# Altium schematic symbol library heromap.SchLib: 513 symbols (part 4 of 4)
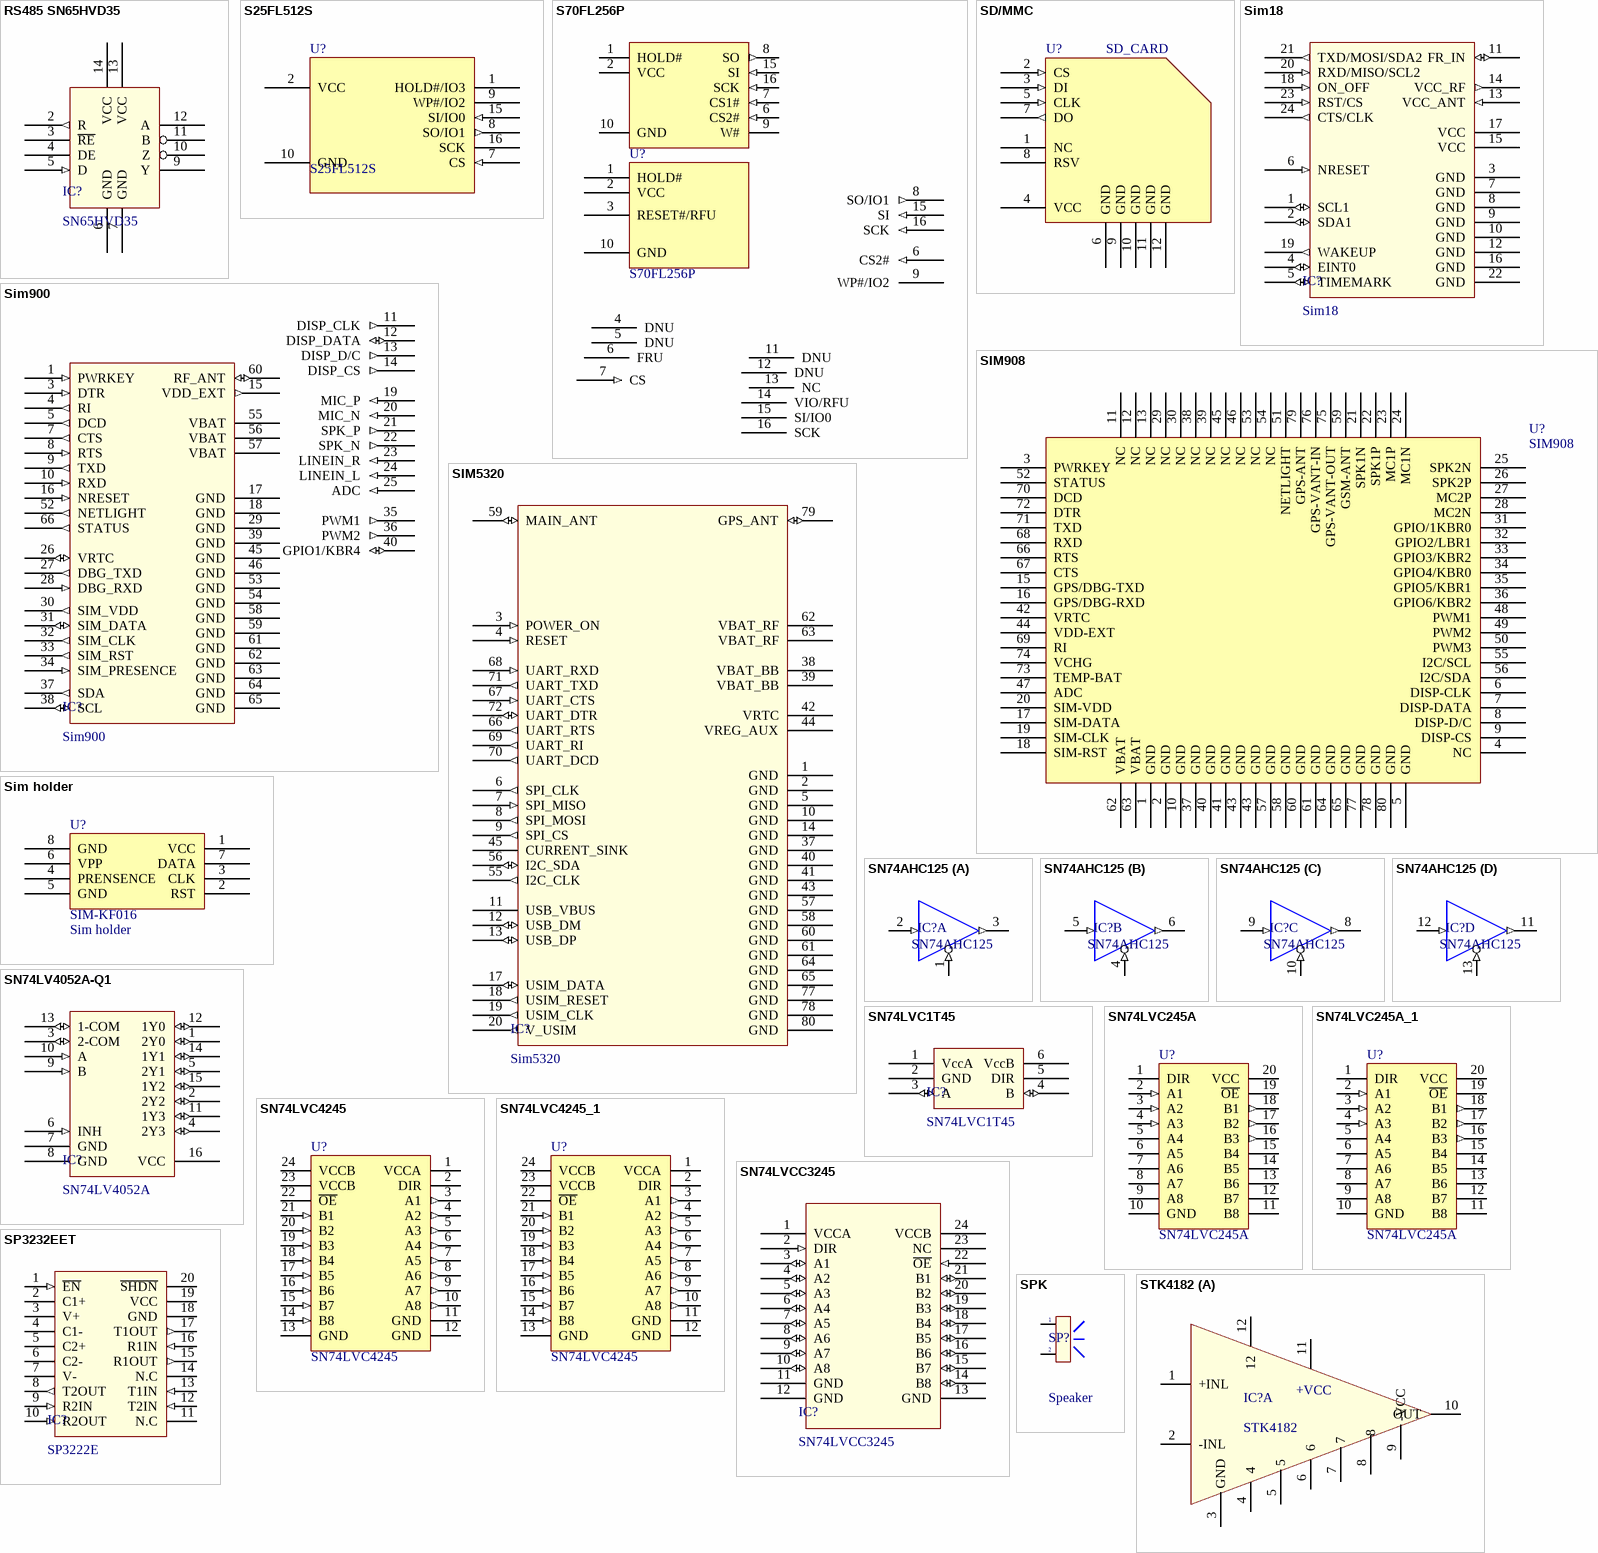
[diagram p22: symbols RS485 SN65HVD35 to STK4182]

## SIM908
designator U?
SIM908 GSM/GPRS + GPS module
footprint Sim 908 (Sim 908 GPRS-GPS)
pins: 1 GND, 2 GND, 3 PWRKEY, 4 NC, 5 GND, 6 DISP-CLK, 7 DISP-DATA, 8 DISP-D/C, 9 DISP-CS, 10 GND, 11 NC, 12 NC, 13 NC, 15 GPS/DBG-TXD, 16 GPS/DBG-RXD, 17 SIM-DATA, 18 SIM-RST, 19 SIM-CLK, 20 SIM-VDD, 21 SPK1N, 22 SPK1P, 23 MC1P, 24 MC1N, 25 SPK2N, 26 SPK2P, 27 MC2P, 28 MC2N, 29 NC, 30 NC, 31 GPIO/1KBR0, 32 GPIO2/LBR1, 33 GPIO3/KBR2, 34 GPIO4/KBR0, 35 GPIO5/KBR1, 36 GPIO6/KBR2, 37 GND, 38 NC, 39 NC, 40 GND, 41 GND, 42 VRTC, 43 GND, 43 GND, 44 VDD-EXT, 45 NC, 46 NC, 47 ADC, 48 PWM1, 49 PWM2, 50 PWM3, 51 NETLIGHT, 52 STATUS, 53 NC, 54 NC, 55 I2C/SCL, 56 I2C/SDA, 57 GND, 58 GND, 59 GSM-ANT, 60 GND, 61 GND, 62 VBAT, 63 VBAT, 64 GND, 65 GND, 66 RTS, 67 CTS, 68 RXD, 69 RI, 70 DCD, 71 TXD, 72 DTR, 73 TEMP-BAT, 74 VCHG, 75 GPS-VANT-OUT, 76 GPS-VANT-IN, 77 GND, 78 GND, 79 GPS-ANT, 80 GND

## SIM5320
designator IC?, comment Sim5320
SIM5320 GSM/GPRS/WCDMA/GPS
pins: 1 GND, 2 GND, 3 POWER_ON (in), 4 RESET (in), 5 GND, 6 SPI_CLK (out), 7 SPI_MISO (in), 8 SPI_MOSI (out), 9 SPI_CS (out), 10 GND, 11 USB_VBUS, 12 USB_DM (io), 13 USB_DP (io), 14 GND, 15 RESERVED hidden, 16 RESERVED hidden, 17 USIM_DATA (io), 18 USIM_RESET (out), 19 USIM_CLK (out), 20 V_USIM (out), 21 SPK_M hidden, 22 SPK_P hidden, 23 MIC1P hidden, 24 MIC1N hidden, 25 EAR1N hidden, 26 EAR1P hidden, 27 KEYSENSE_N1 hidden, 28 KEYSENSE_N0 hidden, 29 KEYPAD_0 hidden, 30 KEYPAD_2 hidden, 31 KEYSENSE_N2 hidden, 32 KEYSENSE_N3 hidden, 33 KEYPAD_1 hidden, 34 KEYPAD_4 hidden, 35 KEYPAD_3 hidden, 36 KEYSENSE_N4 hidden, 37 GND, 38 VBAT_BB, 39 VBAT_BB, 40 GND, 41 GND, 42 VRTC, 43 GND, 44 VREG_AUX, 45 CURRENT_SINK, 46 ADC2 hidden, 47 ADC1 hidden, 48 GPIO44 hidden, 49 GPIO40 hidden, 50 GPIO43 hidden, 51 GPIO1 hidden, 52 GPIO41 hidden, 53 GPIO42 hidden, 54 GPIO4 hidden, 55 I2C_CLK (out), 56 I2C_SDA (io), 57 GND, 58 GND, 59 MAIN_ANT (io), 60 GND, 61 GND, 62 VBAT_RF, 63 VBAT_RF, 64 GND, 65 GND, 66 UART_RTS (out), 67 UART_CTS (in), 68 UART_RXD (in), 69 UART_RI (out), 70 UART_DCD (out), 71 UART_TXD (out), 72 UART_DTR (io), 73 PCM_DOUT hidden, 74 PCM_DIN hidden, 75 PCM_SYNC hidden, 76 PCM_CLK hidden, 77 GND, 78 GND, 79 GPS_ANT (io), 80 GND

## Sim holder
designator U?, comment SIM-KF016  value Sim holder
SIM Card Holder KF-016
footprint SIM_HOLDER
pins: 1 VCC, 2 RST, 3 CLK, 4 PRENSENCE, 5 GND, 6 VPP, 7 DATA, 8 GND

## SN74AHC125
designator IC?
QUADRUPLE BUS BUFFER GATES  WITH 3-STATE OUTPUTS
pins on every part: 7 GND (power) hidden to GND, 14 VCC (power) hidden to VCC
part A pins: 1 1~{OE} (in), 2 1A (in), 3 1Y (out)
part B pins: 4 2~{OE} (in), 5 2A (in), 6 2Y (out)
part C pins: 8 3Y (out), 9 3A (in), 10 3~{OE} (in)
part D pins: 11 4Y (out), 12 4A (in), 13 4~{OE} (in)

## SN74LV4052A-Q1
designator IC?, comment SN74LV4052A
DUAL 4-CHANNEL ANALOG MULTIPLEXERS/DEMULTIPLEXERS
pins: 1 2Y0 (io), 2 2Y2 (io), 3 2-COM (io), 4 2Y3 (io), 5 2Y1 (io), 6 INH (in), 7 GND (power), 8 GND (power), 9 B (in), 10 A (in), 11 1Y3 (io), 12 1Y0 (io), 13 1-COM (io), 14 1Y1 (io), 15 1Y2 (io), 16 VCC (power)

## SN74LVC1T45
designator IC?
SINGLE-BIT DUAL-SUPPLY BUS TRANSCEIVER
footprint SOT23-6 (SOT23, 5-Leads, Body 3.0x3.0mm (max), Pitch 0.95mm, IPC Medium Density)
pins: 1 VccA, 2 GND, 3 A (io), 4 B (io), 5 DIR, 6 VccB

## SN74LVC245A
designator U?
footprint SOIC-20 (SOIC, 16-Leads, Body 10.3x7.5mm (max), Pitch 1.27mm, IPC Medium Density)
pins: 1 DIR, 2 A1 (in), 3 A2 (in), 4 A3 (in), 5 A4, 6 A5, 7 A6, 8 A7, 9 A8, 10 GND, 11 B8, 12 B7, 13 B6, 14 B5, 15 B4, 16 B3 (out), 17 B2 (out), 18 B1 (out), 19 ~{OE}, 20 VCC

## SN74LVC245A_1
designator U?, comment SN74LVC245A
footprint SOIC-20 (SOIC, 16-Leads, Body 10.3x7.5mm (max), Pitch 1.27mm, IPC Medium Density)
pins: 1 DIR, 2 A1 (in), 3 A2 (in), 4 A3 (in), 5 A4, 6 A5, 7 A6, 8 A7, 9 A8, 10 GND, 11 B8, 12 B7, 13 B6, 14 B5, 15 B4, 16 B3 (out), 17 B2 (out), 18 B1 (out), 19 ~{OE}, 20 VCC

## SN74LVC4245
designator U?
IC d¸n SN74LVC4245ADBR
footprint SSOP-24 (SOP, 24-Leads, Body 8.5x5.6mm (max), Pitch 0.65mm, IPC Medium Density)
pins: 1 VCCA, 2 DIR, 3 A1 (out), 4 A2 (out), 5 A3 (out), 6 A4 (out), 7 A5 (out), 8 A6 (out), 9 A7 (out), 10 A8 (out), 11 GND, 12 GND, 13 GND, 14 B8 (in), 15 B7 (in), 16 B6 (in), 17 B5 (in), 18 B4 (in), 19 B3 (in), 20 B2 (in), 21 B1 (in), 22 ~{OE}, 23 VCCB, 24 VCCB

## SN74LVC4245_1
designator U?, comment SN74LVC4245
IC d¸n SN74LVC4245ADBR
footprint SSOP-24 (SOP, 24-Leads, Body 8.5x5.6mm (max), Pitch 0.65mm, IPC Medium Density)
pins: 1 VCCA, 2 DIR, 3 A1 (out), 4 A2 (out), 5 A3 (out), 6 A4 (out), 7 A5 (out), 8 A6 (out), 9 A7 (out), 10 A8 (out), 11 GND, 12 GND, 13 GND, 14 B8 (in), 15 B7 (in), 16 B6 (in), 17 B5 (in), 18 B4 (in), 19 B3 (in), 20 B2 (in), 21 B1 (in), 22 ~{OE}, 23 VCCB, 24 VCCB

## SN74LVCC3245
designator IC?
OCTAL BUS TRANSCEIVER  WITH ADJUSTABLE OUTPUT VOLTAGE AND 3-STATE OUTPUTS
pins: 1 VCCA (power), 2 DIR (in), 3 A1 (io), 4 A2 (io), 5 A3 (io), 6 A4 (io), 7 A5 (io), 8 A6 (io), 9 A7 (io), 10 A8 (io), 11 GND (power), 12 GND (power), 13 GND (power), 14 B8 (io), 15 B7 (io), 16 B6 (io), 17 B5 (io), 18 B4 (io), 19 B3 (io), 20 B2 (io), 21 B1 (io), 22 ~{OE} (in), 23 NC, 24 VCCB (power)

## SP3232EET
designator IC?, comment SP3222E
True +3.0V to +5.5V RS-232 Transceivers
pins: 1 ~{EN} (in), 2 C1+, 3 V+, 4 C1-, 5 C2+, 6 C2-, 7 V-, 8 T2OUT (out), 9 R2IN (in), 10 R2OUT (in), 11 N.C, 12 T2IN (in), 13 T1IN (in), 14 N.C, 15 R1OUT (out), 16 R1IN (in), 17 T1OUT (out), 18 GND (power), 19 VCC (power), 20 ~{SHDN}

## SPK
designator SP?, comment Speaker
Speaker Chip; Value: Speaker Chip
footprint SPK (Speaker Chip)
footprint SP1 (Speaker Telphone on Broad)
pins: 1, 2

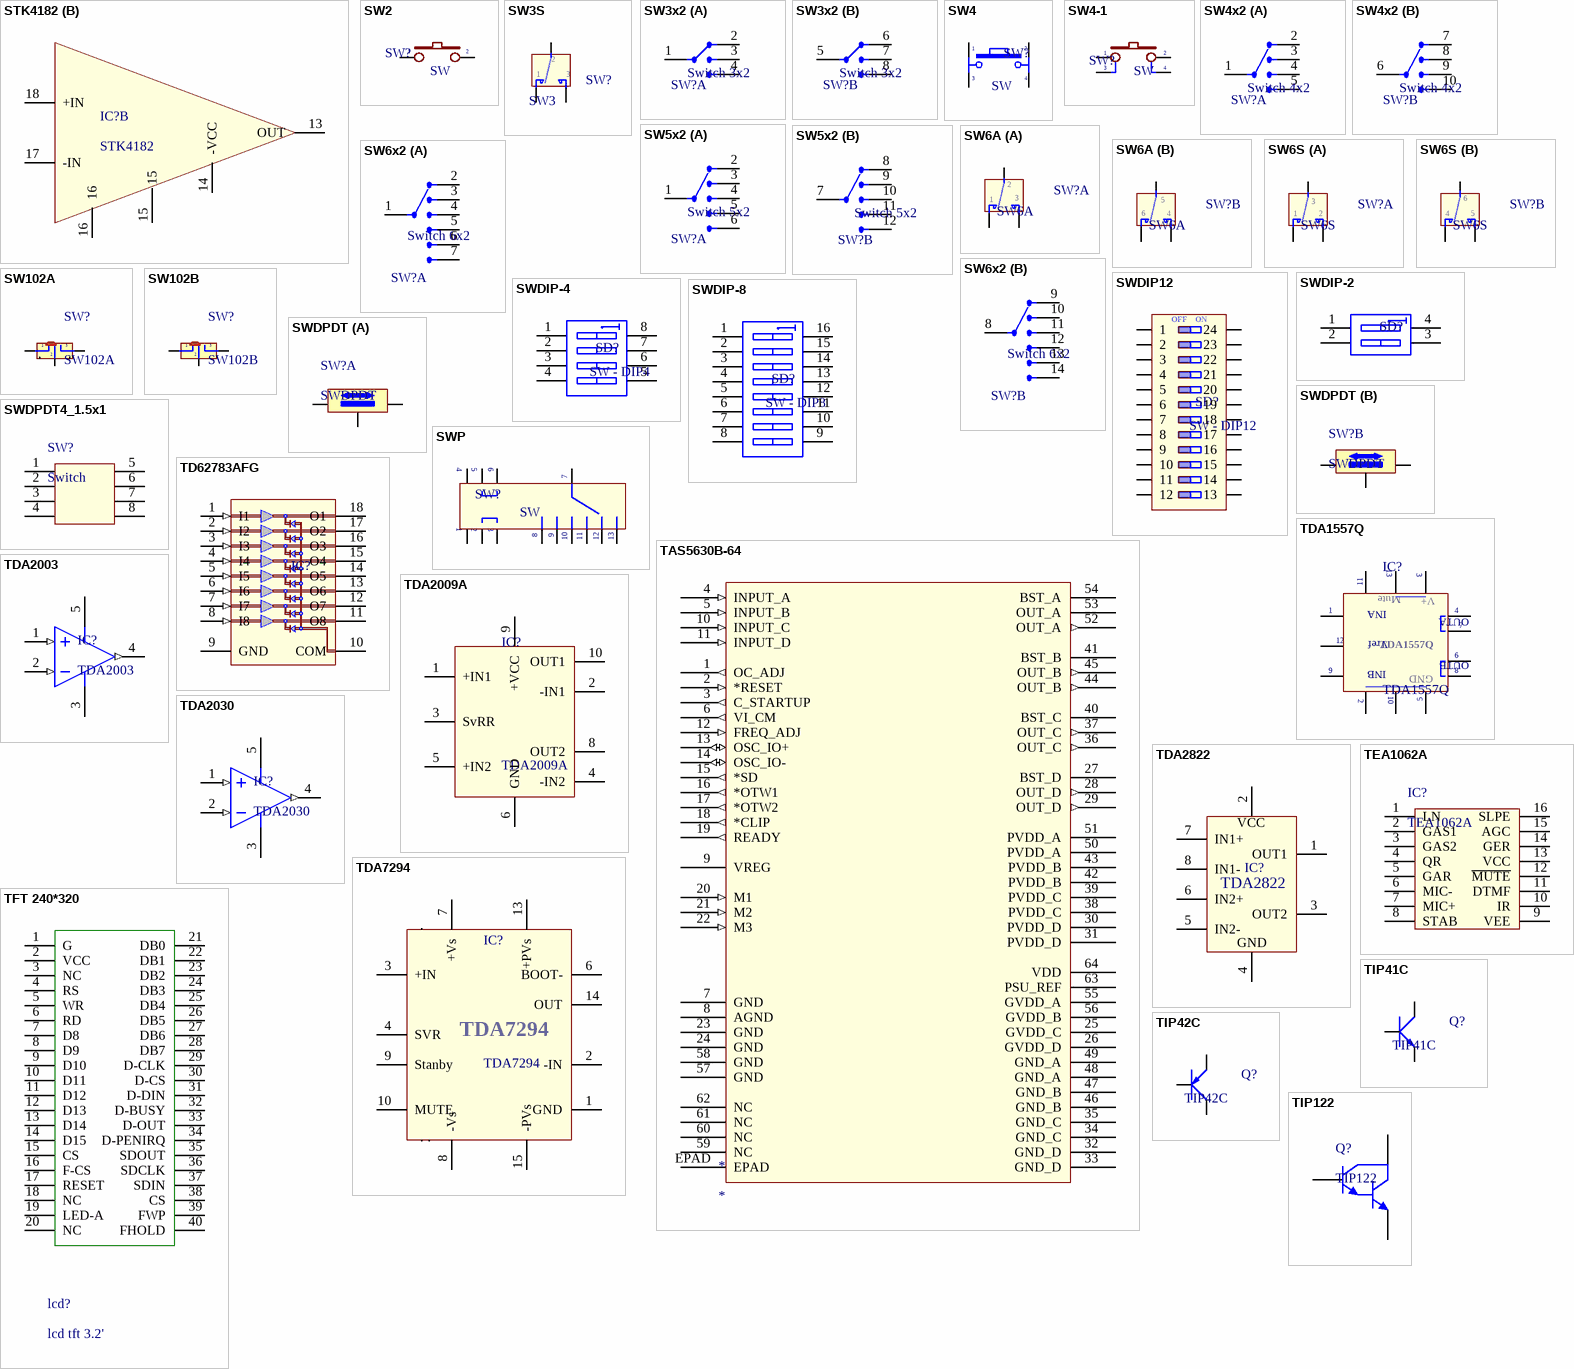
[diagram p17: symbols STK4182 to TIP122]

## STK4182
designator IC?
AF Power Amplifier 2x10W
footprint STK4182 (Pin to pin 100mil, 18 pin)
part A pins: 1 +INL, 2 -INL, 3 GND, 4, 5, 6, 7, 8, 9 -VCC, 10 OUT, 11 +VCC, 12
part B pins: 13 OUT, 14 -VCC, 15, 16, 17 -IN, 18 +IN

## SW2
designator SW?, comment SW
Switch button 2 pin; Value: SW chip 2 pin
footprint SW2 (SW button 2pin, 250x 250 mil)
footprint SW2-D1 (Footprint not found)
footprint SW2-D2 (Footprint not found)
pins: 1, 2

## SW3S
designator SW?, comment SW3
SW-DTDP - 3Pin; Value: SW6
pins: 1, 2, 3

## SW3x2
designator SW?, comment Switch 3x2
Value: Switch 4x2
footprint SW3X2 (Switch 3x2 - pin to pin 80)
part A pins: 1 Com, 2 I/O1, 3 I/O2, 4 I/O3
part B pins: 5 I/O10, 6 I/O9, 7 Com2, 8 I/O6

## SW4
designator SW?, comment SW
Switch button 4 pin; Value: Button chip 4 pin
footprint SW4 (SW button 4pin, 250 x250 mil)
footprint SW4B (SW button 4pin, 450 x 450 mil)
pins: 1, 2, 3, 4

## SW4-1
designator SW?, comment SW
Switch button 4 pin; Value: SW chip 4 pin
footprint SW4 (SW button 4pin, 250 x250 mil)
footprint SW4B (SW button 4pin, 450 x 450 mil)
pins: 1, 2, 3, 4

## SW4x2
designator SW?, comment Switch 4x2
Value: Switch 4x2
footprint SW4X2 (Switch 4x2)
part A pins: 1 Com, 2 I/O1, 3 I/O2, 4 I/O3, 5 I/O4
part B pins: 6 I/O9, 7 Com2, 8 I/O6, 9 I/O7, 10 I/O8

## SW5x2
designator SW?, comment Switch 5x2
Value: Switch 5x2
footprint SW5X2 (Switch 5x2)
part A pins: 1 Com, 2 I/O1, 3 I/O2, 4 I/O3, 5 I/O4, 6 I/O5
part B pins: 7 Com2, 8 I/O6, 9 I/O7, 10 I/O8, 11 I/O9, 12 I/O10

## SW6A
designator SW?
SW-DTDP - 6 Pin; Value: SW6
footprint SW6 (SW DTDP - 6Pin 260x300x300 mil)
part A pins: 1, 2, 3
part B pins: 4, 5, 6

## SW6S
designator SW?
SW-DTDP - 6 Pin; Value: SW6
footprint SW6 (SW DTDP - 6Pin 260x300x300 mil)
part A pins: 1, 2, 3
part B pins: 4, 5, 6

## SW6x2
designator SW?, comment Switch 6x2
Value: Switch 6x2
footprint SW6X2 (Switch 6x2)
part A pins: 1 Com, 2 I/O1, 3 I/O2, 4 I/O3, 5 I/O4, 6 I/O5, 7 I/O6
part B pins: 8 I/O6, 9 I/O7, 10 I/O8, 11 I/O9, 12 I/O10, 13 I/O11, 14 I/O12

## SW102A
designator SW?
Switch 102 on Broad; Value: Switch 102 On Board
footprint SW102 (Switch 102 On Board nho)
footprint SW102T (Switch 102 On Board To)
pins: 1, 2, 3, 4, 5

## SW102B
designator SW?
Switch 102 on Broad; Value: Switch 102 On Board
footprint SW-GAT
footprint SW102T (Switch 102 On Board To)
pins: 1, 2, 3

## SWDIP12
designator SD?, comment SW - DIP12
DIP Switch, 12 Position, SPST; Value: SW - DIP12
footprint DIP24/W0.3 (DIP24/W.300, Pin to pin 100mil)
pins: 1, 2, 3, 4, 5, 6, 7, 8, 9, 10, 11, 12, 13, 14, 15, 16, 17, 18, 19, 20, 21, 22, 23, 24
text: OFF; ON

## SWDIP-2
designator SD?, comment SW - DIP2  (value not drawn)
DIP Switch, 2 Position, SPST; Value: SW - DIP2
footprint DIP4/W0.3 KEY (4 PIN, W 400mil , L 450mil,Pin to pin 100mil)
pins: 1 A1, 2 A2, 3 A3, 4 A4

## SWDIP-4
designator SD?, comment SW - DIP4
DIP Switch, 4 Position, SPST; Value: SW - DIP4
footprint DIP8/W0.3 KEY (8 PIN, W 400mil , L 450mil, Pin to pin 100mil)
pins: 1 A1, 2 A2, 3 A3, 4 A4, 5 B4, 6 B3, 7 B2, 8 B1

## SWDIP-8
designator SD?, comment SW - DIP8
DIP Switch, 8 Position, SPST; Value: SW - DIP8
footprint DIP16/W0.3 KEY (16 PIN, W 300mil, Pin to pin 100mil)
simulation model dpsw8 (Spice Subcircuit)
pins: 1 A1, 2 A2, 3 A3, 4 A4, 5 A5, 6 A6, 7 A7, 8 A8, 9 B8, 10 B7, 11 B6, 12 B5, 13 B4, 14 B3, 15 B2, 16 B1

## SWDPDT
designator SW?
Switch SPDT; Creat by: VanDungEvn@Gmail.com
footprint SWDPDT_1.5x1 (Switch DPDT, Pin to Pin 150mil, Row to Row 100mil)
footprint SWDPDT_1.5x2 (Switch DPDT, Pin to Pin 150mil, Row to Row 200mil)
part A pins: 1, 2, 3
part B pins: 4, 5, 6

## SWDPDT4_1.5x1
designator SW?, comment Switch
Switch 1-3 x2
footprint SWDPDT4_1.5x1 (Switch 3 DPDT, Pin to Pin 150mil, Row to Row 100mil)
pins: 1, 2, 3, 4, 5, 6, 7, 8

## SWP
designator SW?, comment SW
Switch Power; Value: SW Power
footprint SWP (SW Power)
pins: 1, 2, 3, 4, 5, 6, 7, 8, 9, 10, 11, 12, 13

## TAS5630B-64
designator *
pins: 1 OC_ADJ (out), 2 *RESET (in), 3 C_STARTUP (out), 4 INPUT_A (in), 5 INPUT_B (in), 6 VI_CM (out), 7 GND (power), 8 AGND (power), 9 VREG (power), 10 INPUT_C (in), 11 INPUT_D (in), 12 FREQ_ADJ (in), 13 OSC_IO+ (io), 14 OSC_IO- (io), 15 *SD (out), 16 *OTW1 (out), 17 *OTW2 (out), 18 *CLIP (out), 19 READY (out), 20 M1 (in), 21 M2 (in), 22 M3 (in), 23 GND (power), 24 GND (power), 25 GVDD_C (power), 26 GVDD_D (power), 27 BST_D (power), 28 OUT_D (out), 29 OUT_D (out), 30 PVDD_D (power), 31 PVDD_D (power), 32 GND_D (power), 33 GND_D (power), 34 GND_C (power), 35 GND_C (power), 36 OUT_C (out), 37 OUT_C (out), 38 PVDD_C (power), 39 PVDD_C (power), 40 BST_C (power), 41 BST_B (power), 42 PVDD_B (power), 43 PVDD_B (power), 44 OUT_B (out), 45 OUT_B (out), 46 GND_B (power), 47 GND_B (power), 48 GND_A (power), 49 GND_A (power), 50 PVDD_A (power), 51 PVDD_A (power), 52 OUT_A (out), 53 OUT_A (power), 54 BST_A (power), 55 GVDD_A (power), 56 GVDD_B (power), 57 GND (power), 58 GND (power), 59 NC, 60 NC, 61 NC, 62 NC, 63 PSU_REF (power), 64 VDD (power), EPAD

## TD62783AFG
designator IC?  (value not drawn)
High-Voltage, High-Current Darlington Array; Value: TD62783AFG
footprint DIP18/W0.3 (18 PIN, W 300mil, Pin to pin 100mil)
3D model A18 (PCB3D Model)
pins: 1 I1 (in), 2 I2 (in), 3 I3 (in), 4 I4 (in), 5 I5 (in), 6 I6 (in), 7 I7 (in), 8 I8 (in), 9 GND (power), 10 COM, 11 O8 (oc), 12 O7 (oc), 13 O6 (oc), 14 O5 (oc), 15 O4 (oc), 16 O3 (oc), 17 O2 (oc), 18 O1 (oc)

## TDA1557Q
designator IC?
2 x 22 W BTL stereo car radio power amplifier with speaker protection; Value: TDA1557Q
footprint DIP13/S1 (13 Pin so le hai hang cach nhau 200mil., Pin to pin 100mil)
pins: 1 IN1, 2 GND, 3 V+, 4 OUT1A, 5 GND, 6 OUT1B, 7 OUT2A, 8 OUT2B, 9 IN2, 10 GND, 11 Mute, 12 Vref, 13 V+
text: INA; OUTA; OUTB; INB

## TDA2003
designator IC?
10W CAR RADIO AUDIO AMPLIFIER; Value: TDA2003
footprint DIP5SL (Footprint not found)
pins: 1 IN+ (in), 2 IN- (in), 3 V- (power), 4 OUT (out), 5 V+ (power)

## TDA2009A
designator IC?
2 x 10 W BTL stereo car radio power amplifier with speaker protection; Value: TDA1557Q
footprint DIP11/S1 (11 Pin so le hai hang cach nhau 200mil., Pin to pin 100mil)
pins: 1 +IN1, 2 -IN1, 3 SvRR, 4 -IN2, 5 +IN2, 6 GND, 8 OUT2, 9 +VCC, 10 OUT1

## TDA2030
designator IC?
14W Hi-Fi AUDIO AMPLIFIER; Value: TDA2030
footprint DIP5SL (Footprint not found)
pins: 1 IN+ (in), 2 IN- (in), 3 V- (power), 4 OUT (out), 5 V+ (power)

## TDA2822
designator IC?  (value not drawn)
Dual Low Voltage Power Amplifire
footprint DIP8/W0.3 (8 PIN, W 300mil, Pin to pin 100mil)
pins: 1 OUT1, 2 VCC, 3 OUT2, 4 GND "VCC", 5 IN2- "VCC", 6 IN2+ "VCC", 7 IN1+ "VCC", 8 IN1- "VCC"

## TDA7294
designator IC?
100V - 100W DMOS AUDIO AMPLIFIER WITH MUTE/ST-BY; Value: TDA1557Q
footprint DIP15SL2 (TO, Thru-Hole, Vertical, Heatsink Mounted; 15 Bent Staggered Leads; Pitch 1.27 mm)
pins: 1 GND, 2 -IN, 3 +IN, 4 SVR, 5 NC, 6 BOOT-, 7 +Vs, 8 -Vs, 9 Stanby, 10 MUTE, 11 NC, 12 NC, 13 +PVs, 14 OUT, 15 -PVs

## TEA1062A
designator IC?
Low voltage transmission circuits with dialler interface; Creat by: VanDungEvn@Gmail.com
footprint DIP16/W0.3 (16 PIN, W 300mil, Pin to pin 100mil)
pins: 1 LN, 2 GAS1, 3 GAS2, 4 QR, 5 GAR, 6 MIC-, 7 MIC+, 8 STAB, 9 VEE, 10 IR, 11 DTMF, 12 ~{MUTE}, 13 VCC, 14 GER, 15 AGC, 16 SLPE

## TFT 240*320
designator lcd?, comment lcd tft 3.2'
lcd tft 3.2' SSD1289
footprint LCD-TFT-3.2' (Connector; Header; 20x2 Position)
pins: 1 G (power), 2 VCC (power), 3 NC (power), 4 RS (power), 5 WR (power), 6 RD (power), 7 D8 (power), 8 D9 (power), 9 D10 (power), 10 D11 (power), 11 D12 (power), 12 D13 (power), 13 D14 (power), 14 D15 (power), 15 CS (power), 16 F-CS (power), 17 RESET (power), 18 NC (power), 19 LED-A (power), 20 NC (power), 21 DB0 (power), 22 DB1 (power), 23 DB2 (power), 24 DB3 (power), 25 DB4 (power), 26 DB5 (power), 27 DB6 (power), 28 DB7 (power), 29 D-CLK (power), 30 D-CS (power), 31 D-DIN (power), 32 D-BUSY (power), 33 D-OUT (power), 34 D-PENIRQ (power), 35 SDOUT (power), 36 SDCLK (power), 37 SDIN (power), 38 CS (power), 39 FWP (power), 40 FHOLD (power)

## TIP41C
designator Q?
NPN 2W, BCE; Value: TIP41C
footprint QTO-220 (TO-220 - 1-2-3)
pins: 1 B, 2 C, 3 E

## TIP42C
designator Q?
PNP 2W, BCE; Value: TIP42C
footprint QTO-220 (TO-220 - 1-2-3)
pins: 1 B, 2 C, 3 E

## TIP122
designator Q?
Darlington Silicon Power NPN Transistor, 8 Amp, 100 Volts and 65 Watts
footprint QTO-220 (TO-220 - 1-2-3)
pins: 1 B, 2 C, 3 E

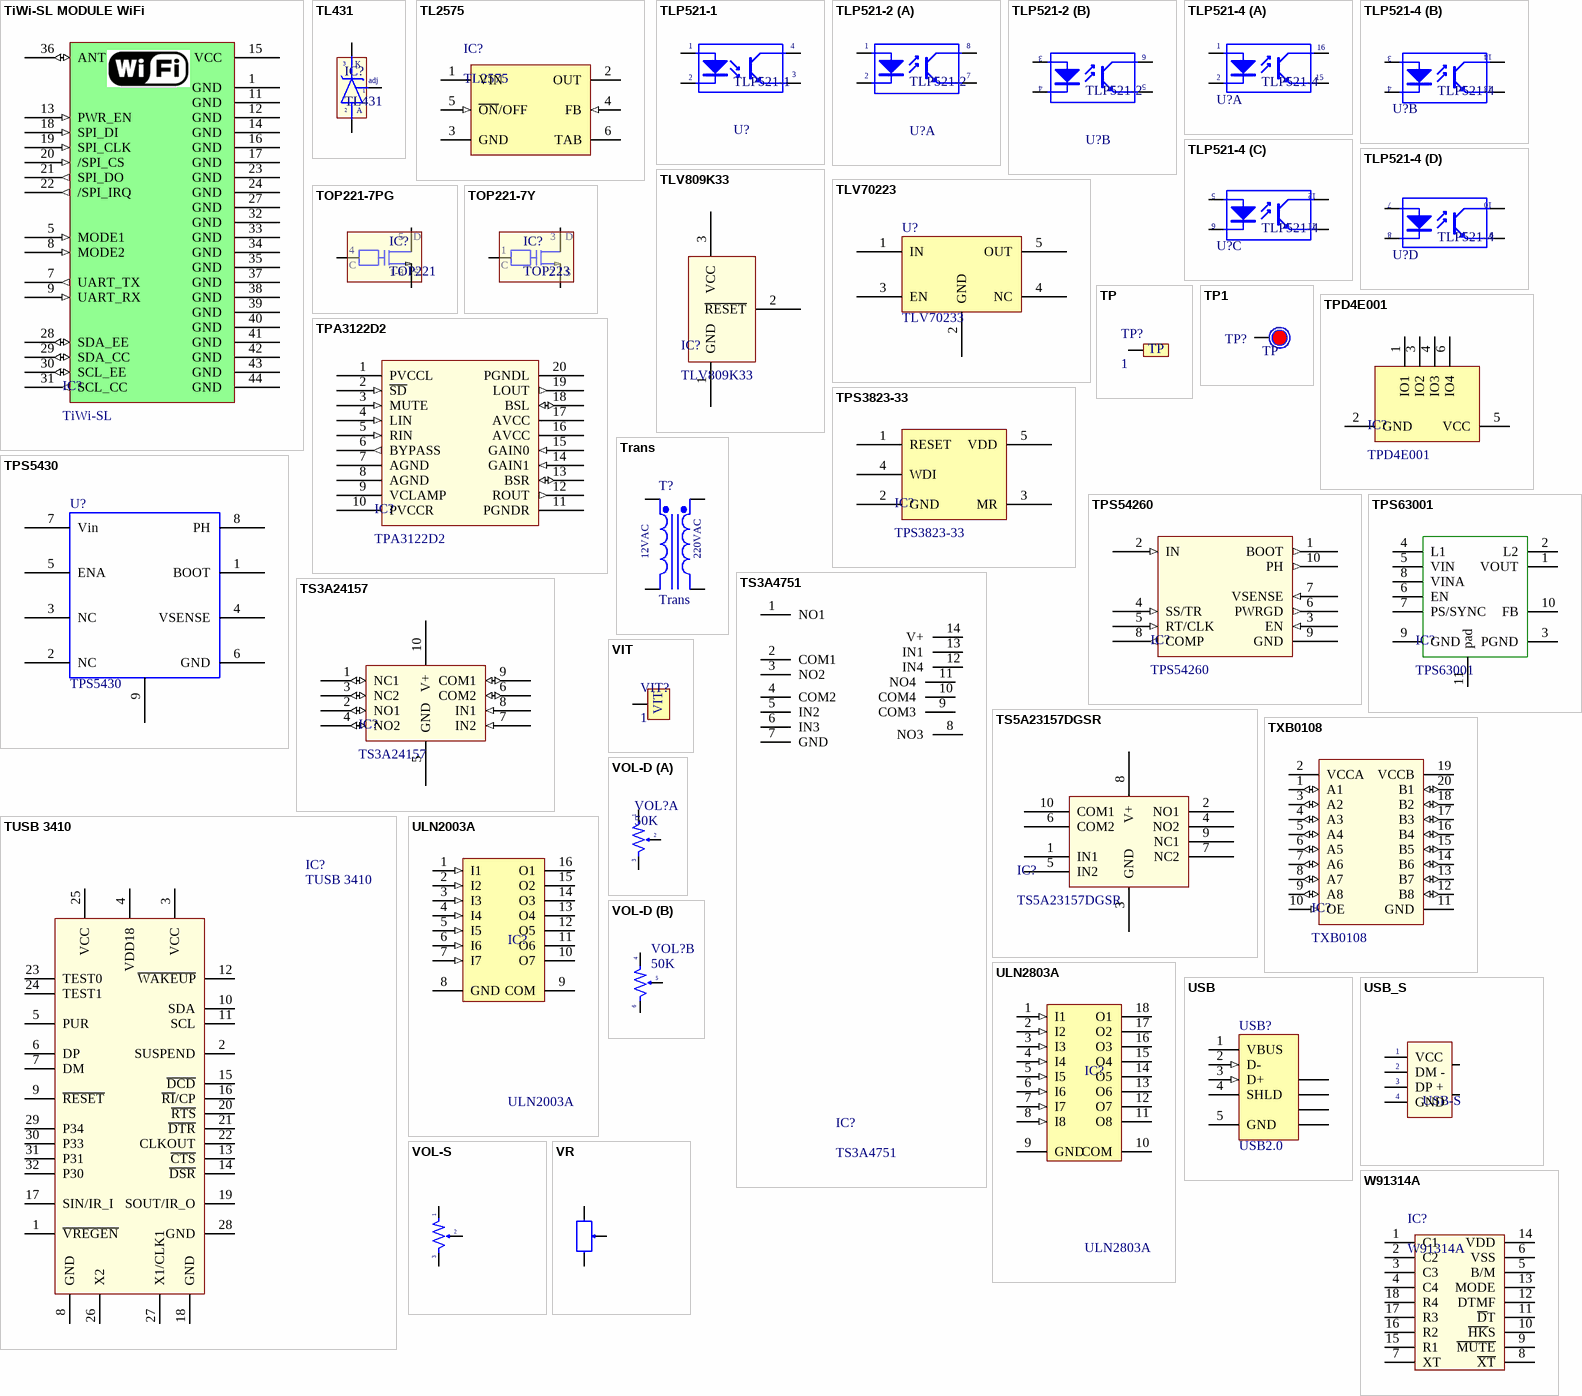
[diagram p18: symbols TiWi-SL MODULE WiFi to W91314A]

## TiWi-SL MODULE WiFi
designator IC?, comment TiWi-SL
TiWi-SL MODULE WiFi
footprint TIWI_SL_MOD
pins: 1 GND , 2 NC  hidden, 3 NC  hidden, 4 NC  hidden, 5 MODE1  (in), 6 NC  hidden, 7 UART_TX  (out), 8 MODE2  (in), 9 UART_RX  (in), 10 NC  hidden, 11 GND , 12 GND , 13 PWR_EN (in), 14 GND , 15 VCC  (power), 16 GND , 17 GND , 18 SPI_DI  (in), 19 SPI_CLK (in), 20 /SPI_CS (in), 21 SPI_DO (out), 22 /SPI_IRQ (out), 23 GND , 24 GND , 25 NC  hidden, 26 NC  hidden, 27 GND , 28 SDA_EE (io), 29 SDA_CC (io), 30 SCL_EE (io), 31 SCL_CC (out), 32 GND , 33 GND , 34 GND , 35 GND , 36 ANT  (io), 37 GND , 38 GND , 39 GND , 40 GND , 41 GND , 42 GND , 43 GND , 44 GND 

## TL431
designator IC?
Programmable Shunt Regulator; Value: TL431
footprint qto-92 (TO-92)
pins: 1 adj, 2 A, 3 K

## TL2575
designator IC?
TLTL2575, TL2575HV 1-A Simple Step-Down Switching Voltage
footprint TS5B_N
footprint QTO-220-5 (TO, Thru-Hole, Vertical, Heatsink Mounted; 5 In-Line Leads; Pitch 1.70 mm)
footprint QTO-220-5-1 (TO, Thru-Hole, Vertical, Heatsink Mounted; 5 Bent Staggered Leads; Pitch 1.7mm)
footprint QTO-220-5-1N (TO, Thru-Hole, Horizontal, Heatsink Mounted; 5 Bent Staggered Leads; Pitch 1.7 mm)
footprint QTO-220-5-1H1 (TO, Thru-Hole, Vertical, Heatsink Mounted; 5 Bent Staggered Leads; Pitch 1.7mm)
footprint QTO-220-5-1H2 (TO, Thru-Hole, Vertical, Heatsink Mounted; 5 Bent Staggered Leads; Pitch 1.7mm)
footprint TO-263
pins: 1 VIN (power), 2 OUT (power), 3 GND (power), 4 FB (in), 5 ~{ON}/OFF (in), 6 TAB (power)

## TLP521-1
designator U?
Single Opto; Value: TLP5211
footprint DIP4/W0.3 (4 PIN, W 300mil, Pin to pin 100mil)
pins: 1 A "Anode", 2 K "Cathode", 3 E "Emitter", 4 C "Collector"

## TLP521-2
designator U?
Dual Opto; Value: TLP521-2
footprint DIP8/W0.3 (8 PIN, W 300mil)
part A pins: 1 A "Anode", 2 K "Cathode", 7 E "Emitter", 8 C "Collector"
part B pins: 3 A "Anode", 4 K "Cathode", 5 E "Emitter", 6 C "Collector"

## TLP521-4
designator U?
Four Opto; Value: TLP521-4
footprint DIP16/W0.3 (16 PIN, W 300mil, Pin to pin 100mil)
part A pins: 1 A "Anode", 2 K "Cathode", 15 E "Emitter", 16 C "Collector"
part B pins: 3 A "Anode", 4 K "Cathode", 13 E "Emitter", 14 C "Collector"
part C pins: 5 A "Anode", 6 K "Cathode", 11 E "Emitter", 12 C "Collector"
part D pins: 7 A "Anode", 8 K "Cathode", 9 E "Emitter", 10 C "Collector"

## TLV809K33
designator IC?
Reset IC, Supply Voltage Supervisors
footprint SOT23 (SOT 23 _ 1-3-2)
pins: 1 GND (power), 2 ~{RESET}, 3 VCC (power)

## TLV70223
designator U?  Name: TLV70233
IC æn ¸p TLV70233, d¸n; Package: SOT23-5
footprint SOT23-5 (SOT23, 5-Leads, Body 3.0x3.0mm (max), Pitch 0.95mm, IPC Medium Density)
pins: 1 IN, 2 GND, 3 EN, 4 NC, 5 OUT

## TOP221-7PG
designator IC?, comment TOP221
Family Three-terminal Off-line PWM Switch
footprint DIP8/W0.3 (8 PIN, W 300mil, Pin to pin 100mil)
footprint SO-8 (8-Pin Small Outline Integrated Circuit 1.27 mm Pitch, IPC Medium Density)
pins: 1 S, 2 S, 3 S, 4 C, 5 D, 6 S, 7 S, 8 S
text: 1-8

## TOP221-7Y
designator IC?, comment TOP223
Family Three-terminal Off-line PWM Switch; Designed by: VanDungEvn
footprint QTO-220 (TO-220 - 1-2-3)
pins: 1 C, 2 C, 3 C
text: D; S

## TP
designator TP?, comment 1
CONNECT 1
footprint TP (Footprint not found)
pins: TP1 0

## TP1
designator TP?, comment TP
Test Point; Value: Test Point
footprint TP1 (Test point)
footprint TP6 (Jac cap 6ly)
pins: 1

## TPA3122D2
designator IC?
15-W Stereo Class-D Audio Power Amplifier
pins: 1 PVCCL, 2 ~{SD} (in), 3 MUTE (in), 4 LIN (in), 5 RIN (in), 6 BYPASS (out), 7 AGND, 8 AGND, 9 VCLAMP, 10 PVCCR , 11 PGNDR, 12 ROUT (out), 13 BSR (io), 14 GAIN1 (in), 15 GAIN0 (in), 16 AVCC, 17 AVCC, 18 BSL (io), 19 LOUT (out), 20 PGNDL

## TPD4E001
designator IC?
footprint SOT23-6 (SOT23, 5-Leads, Body 3.0x3.0mm (max), Pitch 0.95mm, IPC Medium Density)
pins: 1 IO1, 2 GND, 3 IO2, 4 IO3, 5 VCC, 6 IO4

## TPS3823-33
designator IC?
IC reset
footprint SOT23-5 (SOT23, 5-Leads, Body 3.0x3.0mm (max), Pitch 0.95mm, IPC Medium Density)
pins: 1 RESET, 2 GND, 3 MR, 4 WDI, 5 VDD

## TPS5430
designator U?
Name: TPS5430
footprint TPS5430-1
footprint TPS5430-2
pins: 1 BOOT, 2 NC, 3 NC, 4 VSENSE, 5 ENA, 6 GND, 7 Vin, 8 PH, 9 PWR_PAD

## TPS54260
designator IC?
3.5V to 60V INPUT, 2.5A, STEP DOWN CONVERTER WITH ECO-MODE
pins: 1 BOOT (out), 2 IN (in), 3 EN (in), 4 SS/TR (in), 5 RT/CLK (in), 6 PWRGD (out), 7 VSENSE (in), 8 COMP (out), 9 GND (power), 10 PH (out)

## TPS63001
designator IC?
HIGH EFFICIENT SINGLE INDUCTOR BUCK-BOOST CONVERTER WITH 1.8-A SWITCHES
footprint QFN50P300X300X100_HS-21N (Footprint not found)
pins: 1 VOUT (power), 2 L2 (power), 3 PGND (power), 4 L1 (power), 5 VIN (power), 6 EN (power), 7 PS/SYNC (power), 8 VINA (power), 9 GND (power), 10 FB (power), 11 pad (power)

## Trans
designator T?
Transformer (12V-6VA); Published: 8-Jun-2000; LatestRevisionDate: 17-Jul-2002; LatestRevisionNote: Re-released for DXP Platform.; PackageReference: TRF_4; Publisher: Altium Limited; PackageDescription: Transformer; 4 Leads
footprint Transformer 12V-6VA (Transformer; 4 Leads)
pins: 1 Pri+, 2 Pri-, 3 Sec+, 4 Sec-
text: 12VAC; 220VAC

## TS3A4751
designator IC?
Analog Switch ICs
pins: 1 NO1, 2 COM1, 3 NO2, 4 COM2, 5 IN2, 6 IN3, 7 GND, 8 NO3, 9 COM3, 10 COM4, 11 NO4, 12 IN4, 13 IN1, 14 V+

## TS3A24157
designator IC?
Analog Switch ICs
footprint TSSOP50P490X110-10N (TSSOP, 10-Leads, Body 3,1x3,1mm (max), Pitch 0,50mm, IPC Medium Density)
pins: 1 NC1 (io), 2 NO1 (io), 3 NC2 (io), 4 NO2 (io), 5 GND (power), 6 COM2 (io), 7 IN2 (in), 8 IN1 (in), 9 COM1 (io), 10 V+ (power)

## TS5A23157DGSR
designator IC?
Analog Switch ICs
footprint TSSOP50P490X110-10N (TSSOP, 10-Leads, Body 3,1x3,1mm (max), Pitch 0,50mm, IPC Medium Density)
pins: 1 IN1, 2 NO1, 3 GND, 4 NO2, 5 IN2, 6 COM2, 7 NC2, 8 V+, 9 NC1, 10 COM1

## TUSB 3410
designator IC?
USB to RS232 Converter; Value: TUSB 3410
footprint QFP7X7-G32/X.45N (QFP; 32 Leads; Body 7 x 7 mm; Pitch 0.8 mm)
pins: 1 ~{VREGEN}, 2 SUSPEND, 3 VCC, 4 VDD18, 5 PUR, 6 DP, 7 DM, 8 GND, 9 ~{RESET}, 10 SDA, 11 SCL, 12 ~{WAKEUP}, 13 ~{CTS}, 14 ~{DSR}, 15 ~{DCD}, 16 ~{RI}/CP, 17 SIN/IR_I, 18 GND, 19 SOUT/IR_O, 20 ~{RTS}, 21 ~{DTR}, 22 CLKOUT, 23 TEST0, 24 TEST1, 25 VCC, 26 X2, 27 X1/CLK1, 28 GND, 29 P34, 30 P33, 31 P31, 32 P30

## TXB0108
designator IC?
8-BIT BIDIRECTIONAL VOLTAGE-LEVEL TRANSLATOR
pins: 1 A1 (io), 2 VCCA (power), 3 A2 (io), 4 A3 (io), 5 A4 (io), 6 A5 (io), 7 A6 (io), 8 A7 (io), 9 A8 (io), 10 OE (in), 11 GND (power), 12 B8 (io), 13 B7 (io), 14 B6 (io), 15 B5 (io), 16 B4 (io), 17 B3 (io), 18 B2 (io), 19 VCCB (power), 20 B1 (io)

## ULN2003A
designator IC?
High-Voltage, High-Current Darlington Array; LatestRevisionNote: Stylized 3D Model Added.; Publisher: Altium Limited; Value: ULN2003A
footprint DIP16/W0.3 (16 PIN, W 300mil, Pin to pin 100mil)
3D model A18 (PCB3D Model)
footprint SO-G16/X.6 (Small Outline; 16 Leads; Body Width 5.3 mm; Pitch 1.27 mm)
pins: 1 I1 (in), 2 I2 (in), 3 I3 (in), 4 I4 (in), 5 I5 (in), 6 I6 (in), 7 I7 (in), 8 GND (power), 9 COM, 10 O7 (oc), 11 O6 (oc), 12 O5 (oc), 13 O4 (oc), 14 O3 (oc), 15 O2 (oc), 16 O1 (oc)

## ULN2803A
designator IC?
High-Voltage, High-Current Darlington Array; LatestRevisionNote: Stylized 3D Model Added.; Publisher: Altium Limited; Value: ULN2803A
footprint DIP18/W0.3 (18 PIN, W 300mil, Pin to pin 100mil)
3D model A18 (PCB3D Model)
pins: 1 I1 (in), 2 I2 (in), 3 I3 (in), 4 I4 (in), 5 I5 (in), 6 I6 (in), 7 I7 (in), 8 I8 (in), 9 GND (power), 10 COM, 11 O8 (oc), 12 O7 (oc), 13 O6 (oc), 14 O5 (oc), 15 O4 (oc), 16 O3 (oc), 17 O2 (oc), 18 O1 (oc)

## USB
designator USB?, comment USB2.0
USB 2.0, Right Angle, SMT, B Type, Receptacle, 5 Position, Black; ContactMaterial: Copper Alloy; ContactPlating: Gold (30); PCB_Layout: Complies with manufacturer's recommendation.; DrillSize: Corresponds to nominal value.; PanelGround: Without; Published: 15-Jul-2004; DatasheetDocument: 27-Jun-2003; PackageDocument: 27-Jun-2003; PackageReference: 440247; Publisher: Altium Limited; HousingMaterial: Thermoplastic; ComponentLink1Description: Manufacturer Link; ComponentLink1URL: http://www.tycoelectronics.com/; ComponentLink2Description: Packaging Specification; ComponentLink2URL: http://ecommas.tycoelectronics.com/commerce/DocumentDelivery/DDEController?Action=showdoc&DocId=Customer+Drawing%7F440247%7FD%7Fpdf%7FEnglish%7FC_440247_D.pdf
footprint USB mini (Footprint not found)
pins: 1 VBUS (power) "Power", 2 D- (in) "-DATA", 3 D+ (in) "+DATA", 4 SHLD "Ground", 5 GND (power) "Shield", 6 SHLD "Shield", 7 SHLD "Shield", 8 SHLD "Shield", 9 SHLD "Shield"

## USB_S
designator USB?, comment USB-S
USB connector; Value: USB
footprint USB-S2 (USB B connector, 4pin, For Print)
footprint USB-S1 (USB A connector, 4pin, For USB sing)
footprint USB-M (For USB SMD)
pins: 1 VCC, 2 DM -, 3 DP +, 4 GND, 5, 6

## VIT
designator VIT?, comment 1
Oc Vit
footprint VIT
pins: VIT1 1

## VOL-D
designator VOL?, comment 50K
Volume control Dual; Value: Volume Dual 50K
footprint VOL-D (Volume control Dual)
part A pins: 1, 2, 3
part B pins: 4, 5, 6

## VOL-S
designator VOL?, comment 50K
Var Resistor; Value: Volume 50k
footprint VOL-S (Volume control single)
footprint VOL_SMD
pins: 1, 2, 3

## VR
designator VR?, comment 10K
Var Resistor; Value: VR 10K
footprint VR1 (Variable Resistor)
footprint VR (Resistor Variable)
pins: 1, 2, 3

## W91314A
designator IC?
TONE/PULSE DIALER WITH  REDIAL FUNCTION; Creat by: VanDungEvn@Gmail.com
footprint DIP18/W0.3 (18 PIN, W 300mil, Pin to pin 100mil)
pins: 1 C1, 2 C2, 3 C3, 4 C4, 5 B/M, 6 VSS, 7 XT, 8 ~{XT}, 9 ~{MUTE}, 10 ~{HK}S, 11 ~{D}T, 12 DTMF, 13 MODE, 14 VDD, 15 R1, 16 R2, 17 R3, 18 R4

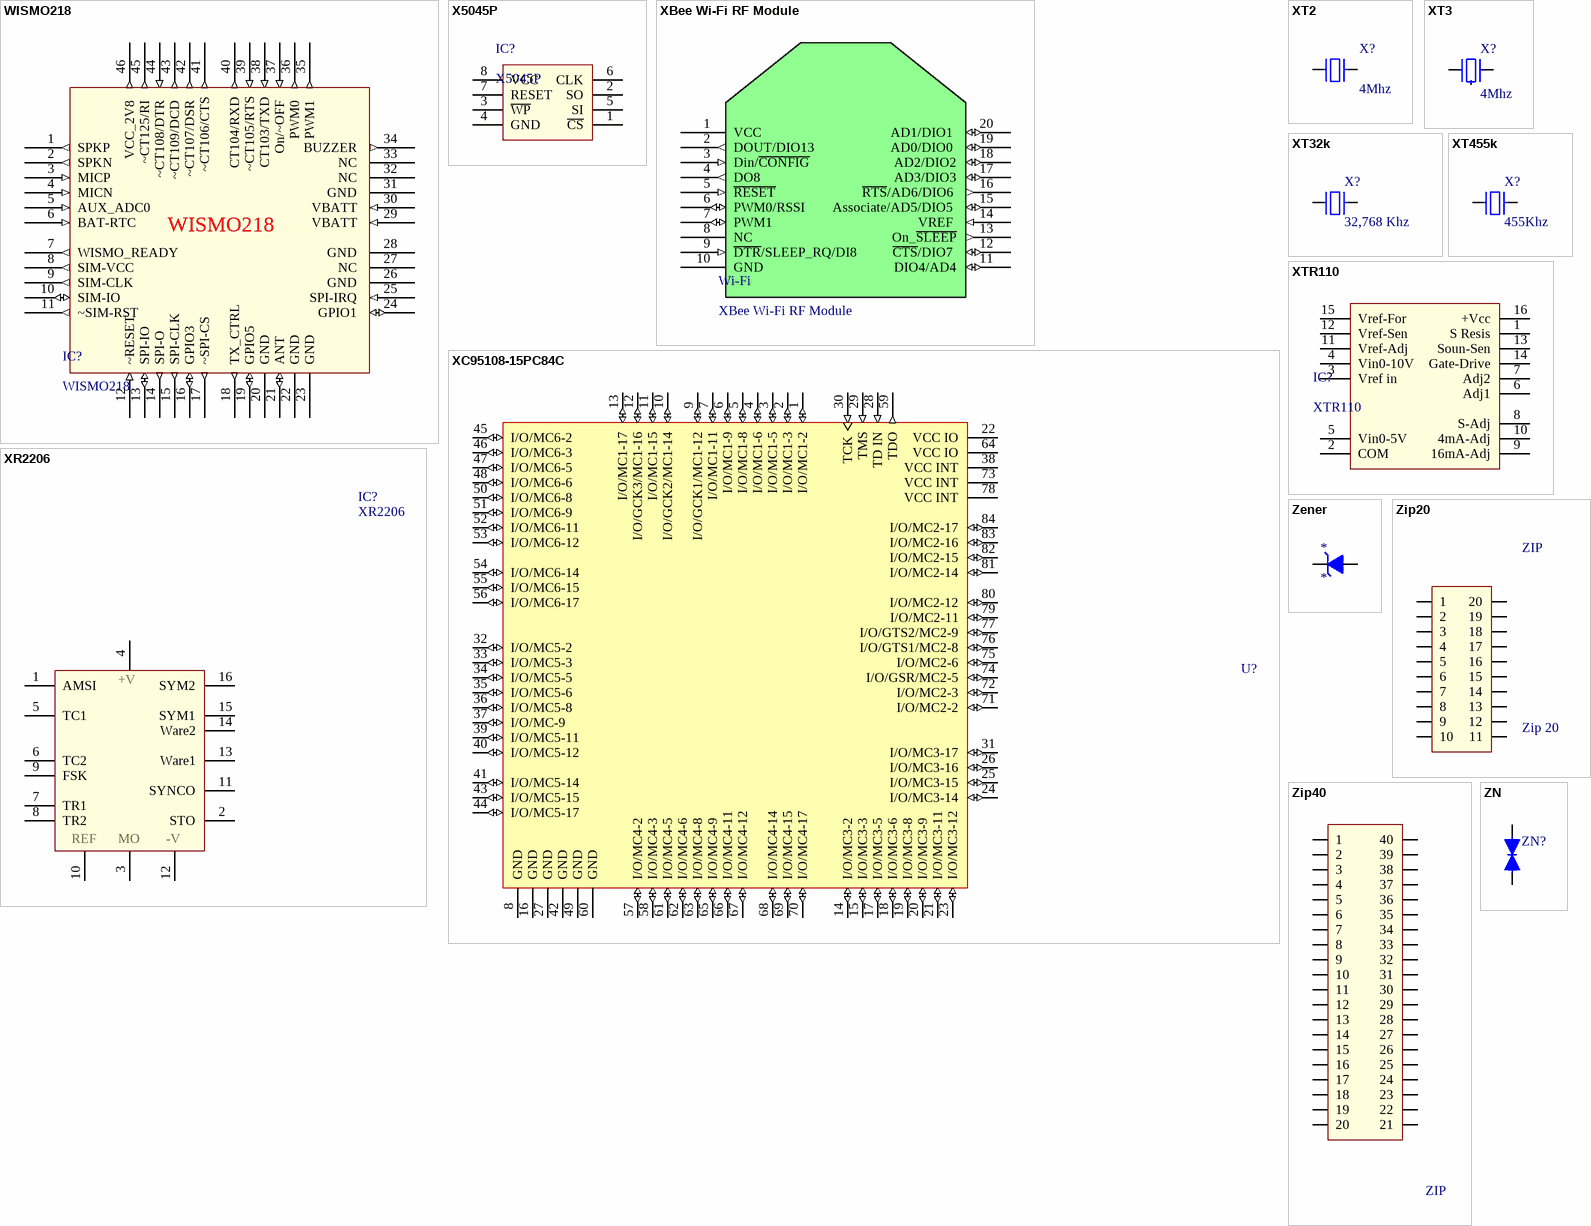
[diagram p19: symbols WISMO218 to ZN]

## WISMO218
designator IC?
WIreless Standard MOdem GSM GPRS
footprint Wismo218 (LCC, 46-Pins, Body 25,0x25,0mm (max), Wismo218)
pins: 1 SPKP  (out), 2 SPKN  (out), 3 MICP  (in), 4 MICN  (in), 5 AUX_ADC0  (in), 6 BAT-RTC  (in), 7 WISMO_READY  (out), 8 SIM-VCC  (out), 9 SIM-CLK  (out), 10 SIM-IO  (io), 11 ~SIM-RST  (out), 12 ~RESET  (in), 13 SPI-IO  (io), 14 SPI-O  (out), 15 SPI-CLK  (out), 16 GPIO3  (io), 17 ~SPI-CS  (out), 18 TX_CTRL  (out), 19 GPIO5  (io), 20 GND  (power), 21 ANT  (io), 22 GND  (power), 23 GND  (power), 24 GPIO1  (io), 25 SPI-IRQ  (in), 26 GND  (power), 27 NC , 28 GND  (power), 29 VBATT  (in), 30 VBATT  (in), 31 GND  (power), 32 NC , 33 NC , 34 BUZZER  (out), 35 PWM1  (out), 36 PWM0  (out), 37 On/~OFF  (in), 38 CT103/TXD (in), 39 ~CT105/RTS (in), 40 CT104/RXD (out), 41 ~CT106/CTS (out), 42 ~CT107/DSR  (out), 43 ~CT109/DCD  (out), 44 ~CT108/DTR  (in), 45 ~CT125/RI  (out), 46 VCC_2V8  (out)

## X5045P
designator IC?
4K SPI EEPROM
footprint DIP8/W0.3 (8 PIN, W 300mil, Pin to pin 100mil)
pins: 1 ~{CS}, 2 SO, 3 ~{WP}, 4 GND, 5 SI, 6 CLK, 7 RESET, 8 VCC

## XBee Wi-Fi RF Module
designator Wi-Fi
pins: 1 VCC  (power), 2 DOUT/DIO13  (out), 3 Din/~{CONFIG} (in), 4 DO8 (out), 5 ~{RESET} (in), 6 PWM0/RSSI (io), 7 PWM1 (io), 8 NC, 9 ~{DTR}/SLEEP_RQ/DI8  (in), 10 GND  (power), 11 DIO4/AD4 (io), 12 ~{CTS}/DIO7  (io), 13 On_~{SLEEP} (out), 14 VREF  (in), 15 Associate/AD5/DIO5  (io), 16 ~{RTS}/AD6/DIO6  (out), 17 AD3/DIO3 (io), 18 AD2/DIO2 (io), 19 AD0/DIO0  (io), 20 AD1/DIO1  (io)

## XC95108-15PC84C
designator U?  (value not drawn)
Programmable CPLD; Class I: Programmable Logic Device; Class II: XC9500; Revision: 17-Jul-2002: Re-released for DXP Platform.; Value: XC95108
footprint PC84 (Footprint not found)
pins: 1 I/O/MC1-2 (io), 2 I/O/MC1-3 (io), 3 I/O/MC1-5 (io), 4 I/O/MC1-6 (io), 5 I/O/MC1-8 (io), 6 I/O/MC1-9 (io), 7 I/O/MC1-11 (io), 8 GND (power), 9 I/O/GCK1/MC1-12 (io), 10 I/O/GCK2/MC1-14 (io), 11 I/O/MC1-15 (io), 12 I/O/GCK3/MC1-16 (io), 13 I/O/MC1-17 (io), 14 I/O/MC3-2 (io), 15 I/O/MC3-3 (io), 16 GND (power), 17 I/O/MC3-5 (io), 18 I/O/MC3-6 (io), 19 I/O/MC3-8 (io), 20 I/O/MC3-9 (io), 21 I/O/MC3-11 (io), 22 VCC IO (power), 23 I/O/MC3-12 (io), 24 I/O/MC3-14 (io), 25 I/O/MC3-15 (io), 26 I/O/MC3-16 (io), 27 GND (power), 28 TD IN (in), 29 TMS (in), 30 TCK (in), 31 I/O/MC3-17 (io), 32 I/O/MC5-2 (io), 33 I/O/MC5-3 (io), 34 I/O/MC5-5 (io), 35 I/O/MC5-6 (io), 36 I/O/MC5-8 (io), 37 I/O/MC-9 (io), 38 VCC INT (power), 39 I/O/MC5-11 (io), 40 I/O/MC5-12 (io), 41 I/O/MC5-14 (io), 42 GND (power), 43 I/O/MC5-15 (io), 44 I/O/MC5-17 (io), 45 I/O/MC6-2 (io), 46 I/O/MC6-3 (io), 47 I/O/MC6-5 (io), 48 I/O/MC6-6 (io), 49 GND (power), 50 I/O/MC6-8 (io), 51 I/O/MC6-9 (io), 52 I/O/MC6-11 (io), 53 I/O/MC6-12 (io), 54 I/O/MC6-14 (io), 55 I/O/MC6-15 (io), 56 I/O/MC6-17 (io), 57 I/O/MC4-2 (io), 58 I/O/MC4-3 (io), 59 TDO (out), 60 GND (power), 61 I/O/MC4-5 (io), 62 I/O/MC4-6 (io), 63 I/O/MC4-8 (io), 64 VCC IO (power), 65 I/O/MC4-9 (io), 66 I/O/MC4-11 (io), 67 I/O/MC4-12 (io), 68 I/O/MC4-14 (io), 69 I/O/MC4-15 (io), 70 I/O/MC4-17 (io), 71 I/O/MC2-2 (io), 72 I/O/MC2-3 (io), 73 VCC INT (power), 74 I/O/GSR/MC2-5 (io), 75 I/O/MC2-6 (io), 76 I/O/GTS1/MC2-8 (io), 77 I/O/GTS2/MC2-9 (io), 78 VCC INT (power), 79 I/O/MC2-11 (io), 80 I/O/MC2-12 (io), 81 I/O/MC2-14 (io), 82 I/O/MC2-15 (io), 83 I/O/MC2-16 (io), 84 I/O/MC2-17 (io)

## XR2206
designator IC?
OSC Sine - Square - Triangle; Value: DIP 16; Value: XR2206
footprint DIP16/W0.3 (16 PIN, W 300mil, Pin to pin 100mil)
pins: 1 AMSI, 2 STO, 3 MO, 4 +V, 5 TC1, 6 TC2, 7 TR1, 8 TR2, 9 FSK, 10 REF, 11 SYNCO, 12 -V, 13 Ware1, 14 Ware2, 15 SYM1, 16 SYM2

## XT2
designator X?, comment 4Mhz
Crystal For all Crystal 2pin.; Value: 4Mhz
footprint XT2 (Footpin for Crystal 2 pin)
footprint XT2N (Crystal 2pin, high 200 mil)
footprint XT1
pins: 1, 2

## XT3
designator X?, comment 4Mhz
Crystal For all Crystal 2pin.; Value: 4Mhz
footprint XT3 (Crystal 3pin, High 200mil, Cremic)
pins: 1, 2, 3

## XT32k
designator X?, comment 32,768 Khz
Crystal 32,768kHz for timer real; Value: 32,768khz
footprint XT32-1 (Footprint not found)
footprint XT32-2 (Footprint not found)
footprint XT32-3 (Footprint not found)
pins: 1, 2

## XT455k
designator X?, comment 455Khz
Crystal 455kHz Infrared; Value: 32,768khz
footprint XT455k (Thach anh 455khz (Infrared))
footprint XT455KN (Thach anh 455khz)
pins: 1, 2

## XTR110
designator IC?
PRECISION VOLTAGE-TO-CURREN  CONVERTER/TRANSMITTER; Designed by: VanDungEvn; Value: XTR110
footprint DIP16/W0.3 (16 PIN, W 300mil, Pin to pin 100mil)
pins: 1 S Resis, 2 COM, 3 Vref in, 4 Vin0-10V, 5 Vin0-5V, 6 Adj1, 7 Adj2, 8 S-Adj, 9 16mA-Adj, 10 4mA-Adj, 11 Vref-Adj, 12 Vref-Sen, 13 Soun-Sen, 14 Gate-Drive, 15 Vref-For, 16 +Vcc

## Zener
designator *
DIOT ZENER
footprint D1A (Diode 1A, W 100mil, L 350mil)
footprint 1N4148_SMD
pins: 1 A, 2 K

## Zip20
designator ZIP, comment Zip 20
De 20 pin; Value: Gat 20 pin
footprint ZIP20 (DIP 20, W 600mil/ L 1600mil)
footprint DIP20/W0.3 (DIP 20, 20 PIN, W 300mil, Pin to pin 100mil)
pins: 1, 2, 3, 4, 5, 6, 7, 8, 9, 10, 11, 12, 13, 14, 15, 16, 17, 18, 19, 20

## Zip40
designator ZIP, comment Zip 40  (value not drawn)
De 40 pin; Value: Gat 40 pin
footprint ZIP40 (40 PIN, W 900 mil , L 2600 mil , Push Pro FOR Chip)
footprint DIP40/W0.6 (40 PIN, W 600mil, Pin to pin 100mil)
footprint DIP40/W0.3 (40 PIN, W 300mil, Pin to pin 100mil)
pins: 1, 2, 3, 4, 5, 6, 7, 8, 9, 10, 11, 12, 13, 14, 15, 16, 17, 18, 19, 20, 21, 22, 23, 24, 25, 26, 27, 28, 29, 30, 31, 32, 33, 34, 35, 36, 37, 38, 39, 40

## ZN
designator ZN?, comment Z  (value not drawn)
Zenner Protect AC in; Value: Zenner Protect AC input
footprint CN4 (Cap np W 0.4)
pins: 1, 2